# Altium footprint library 598-8160-107F.PcbLib: 1 footprints
Each footprint in its own frame and in the unit in brackets; x right, y up, seen from the top. Pads: shape width x height; smd on the part's side, far side on the other; paste and mask are expansions set on the pad; w line width, h text height; cw(c..) or ccw(c..) is an arc to the next point about the centre after c.
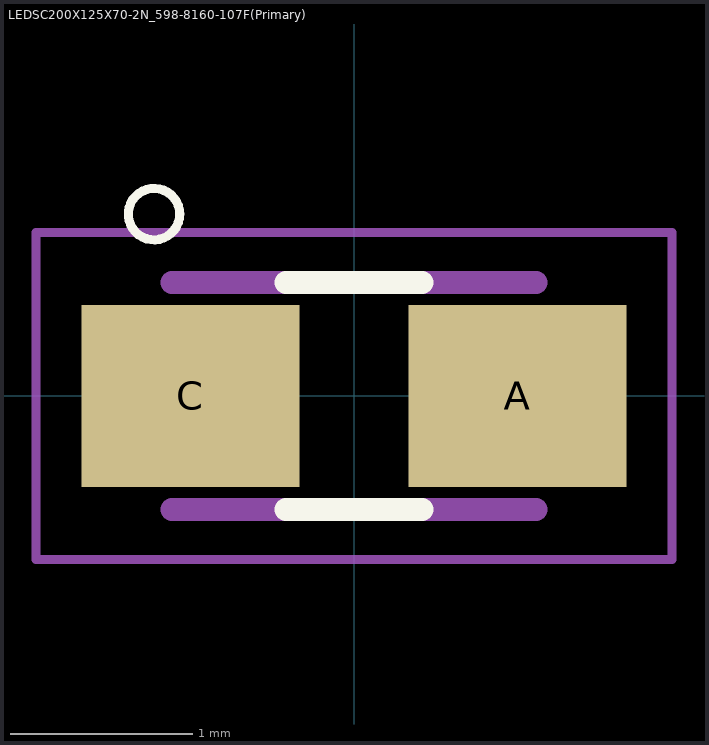
[diagram p0: the footprint, top view; thin cyan lines are the x and y axes]

## LEDSC200X125X70-2N_598-8160-107F(Primary) [mm]
pads (2):
  rect 1.2x1 smd paste-25.4 mask-25.4: A(0.9,0) C(-0.9,0)
Top Overlay:
  circle w0.05: c-1.1,1 r0.141
  lines w0.127: -0.375,-0.625 0.375,-0.625 ; -0.375,0.625 0.375,0.625
Top Paste:
  region: 0.3,-0.5 1.5,-0.5 1.5,0.5 0.3,0.5
  region: -1.5,-0.5 -0.3,-0.5 -0.3,0.5 -1.5,0.5
Top Solder:
  region: 0.2,-0.6 1.6,-0.6 1.6,0.6 0.2,0.6
  region: -1.6,-0.6 -0.2,-0.6 -0.2,0.6 -1.6,0.6
Mechanical 1:
  lines w0.05: -1.75,-0.9 -1.75,0.9 1.75,0.9 1.75,-0.9 -1.75,-0.9
  lines w0.127: -1,-0.625 -0.375,-0.625 ; -1,0.625 -0.375,0.625 ; 0.375,-0.625 1,-0.625 ; 0.375,0.625 1,0.625